# Altium schematic symbol library AD9102BCPZ.SchLib: 1 symbol
Pins are listed as number, name and electrical type; pins without a type are passive.

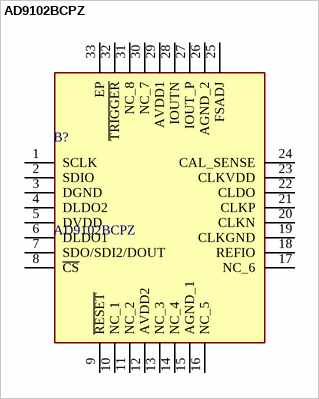
[diagram p0: symbol AD9102BCPZ]

## AD9102BCPZ
designator B?
Analog Devices AD9102BCPZ, 14 bit Serial DAC, 180Msps, 32-Pin LFCSP; Geometry.Height: 0.8mm; Mouser Part Number: 584-AD9102BCPZ; Mouser Price/Stock: https://www.mouser.co.uk/ProductDetail/Analog-Devices/AD9102BCPZ?qs=%2FtpEQrCGXCx4RM%2FcE0d16g%3D%3D; Manufacturer_Name: Analog Devices; Manufacturer_Part_Number: AD9102BCPZ; Datasheet Link: https://www.analog.com/media/en/technical-documentation/data-sheets/AD9102.pdf
footprint QFN50P500X500X80-33N-D
pins: 1 SCLK, 2 SDIO, 3 DGND, 4 DLDO2, 5 DVDD, 6 DLDO1, 7 SDO/SDI2/DOUT, 8 ~{CS}, 9 ~{RESET}, 10 NC_1, 11 NC_2, 12 AVDD2, 13 NC_3, 14 NC_4, 15 AGND_1, 16 NC_5, 17 NC_6, 18 REFIO, 19 CLKGND, 20 CLKN, 21 CLKP, 22 CLDO, 23 CLKVDD, 24 CAL_SENSE, 25 FSADJ, 26 AGND_2, 27 IOUT_P, 28 IOUTN, 29 AVDD1, 30 NC_7, 31 NC_8, 32 ~{TRIGGER}, 33 EP